# EAGLE library part AT89C513*- (library atmel)
8-bit Flash Microcontroller with Full Speed USB Device Source: http://www.atmel.com/dyn/resources/prod_documents/doc4136.pdf Data sheet mistake: define Packge type pin description for MLF48 but Order Number for QFN32 !?
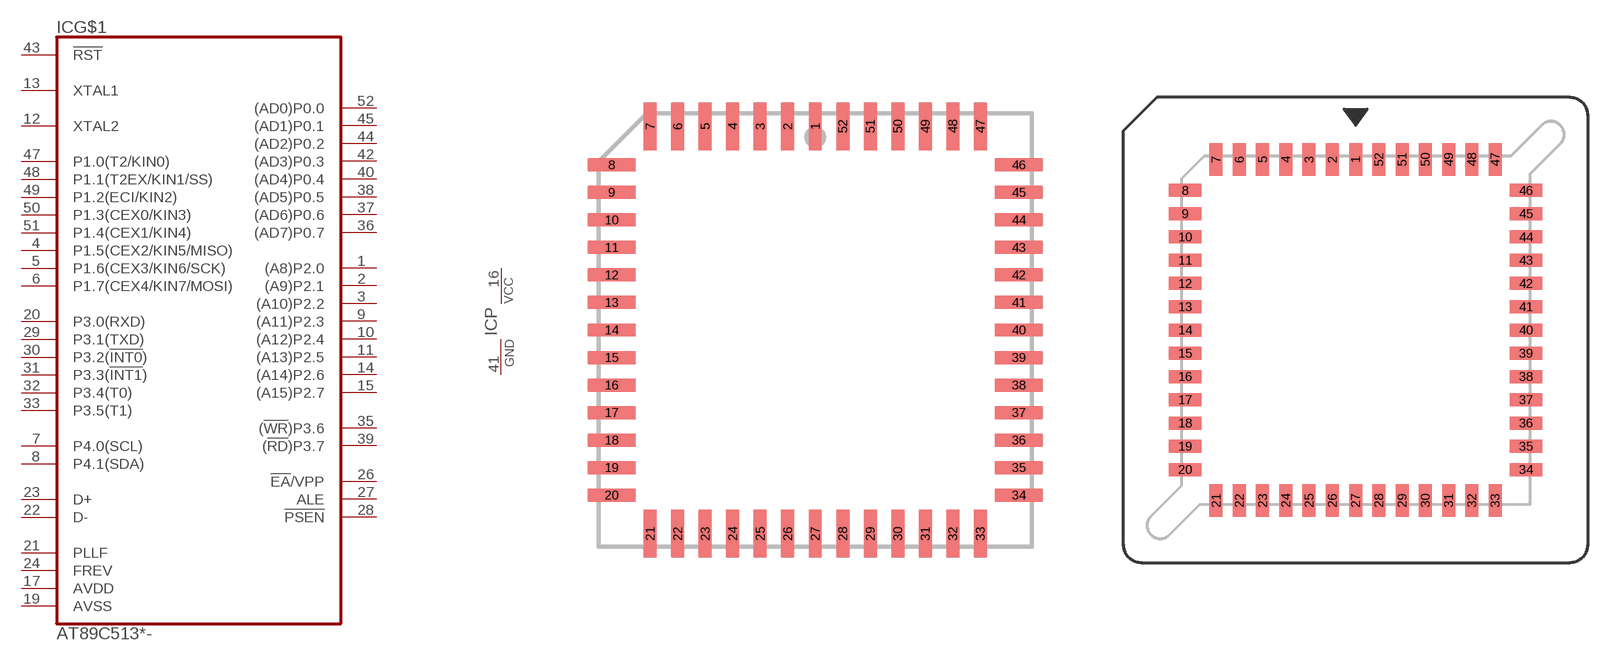
[diagram p12: symbol with the pads of PLCC52; footprints PLCC52, PLCC52_S-SMT_3M]

Designator prefix IC; gates G$1=AT89C5131 P=PWR

## AT89C5130-S, AT89C5131-S  [PLCC52]
1  G$1:(A8)P2.0
2  G$1:(A9)P2.1
3  G$1:(A10)P2.2
4  G$1:P1.5(CEX2/KIN5/MISO)
5  G$1:P1.6(CEX3/KIN6/SCK)
6  G$1:P1.7(CEX4/KIN7/MOSI)
7  G$1:P4.0(SCL)
8  G$1:P4.1(SDA)
9  G$1:(A11)P2.3
10  G$1:(A12)P2.4
11  G$1:(A13)P2.5
12  G$1:XTAL2  in
13  G$1:XTAL1  in
14  G$1:(A14)P2.6
15  G$1:(A15)P2.7
16  P:VCC  pwr
17  G$1:AVDD  pwr
19  G$1:AVSS  pwr
20  G$1:P3.0(RXD)
21  G$1:PLLF
22  G$1:D-
23  G$1:D+
24  G$1:FREV
26  G$1:!EA!/VPP  in
27  G$1:ALE
28  G$1:!PSEN  out
29  G$1:P3.1(TXD)
30  G$1:P3.2(!INT0!)
31  G$1:P3.3(!INT1!)
32  G$1:P3.4(T0)
33  G$1:P3.5(T1)
35  G$1:(!WR!)P3.6
36  G$1:(AD7)P0.7
37  G$1:(AD6)P0.6
38  G$1:(AD5)P0.5
39  G$1:(!RD!)P3.7
40  G$1:(AD4)P0.4
41  P:GND  pwr
42  G$1:(AD3)P0.3
43  G$1:!RST  in
44  G$1:(AD2)P0.2
45  G$1:(AD1)P0.1
47  G$1:P1.0(T2/KIN0)
48  G$1:P1.1(T2EX/KIN1/SS)
49  G$1:P1.2(ECI/KIN2)
50  G$1:P1.3(CEX0/KIN3)
51  G$1:P1.4(CEX1/KIN4)
52  G$1:(AD0)P0.0

## AT89C5130-S(S1), AT89C5131-S(S1)  [PLCC52_S-SMT_3M]
Pads as for PLCC52

## AT89C5130-S(S2), AT89C5131-S(S2)  [PLCC52_S-THT_1]
Pads as for PLCC52

## AT89C5130-R, AT89C5131-R  [QFP64_10X10_0.50]
2  G$1:(A11)P2.3
3  G$1:(A12)P2.4
4  G$1:(A13)P2.5
5  G$1:XTAL2  in
6  G$1:XTAL1  in
7  G$1:(A14)P2.6
8  G$1:(A15)P2.7
9  P:VCC  pwr
10  G$1:AVDD  pwr
12  G$1:AVSS  pwr
14  G$1:P3.0(RXD)
19  G$1:PLLF
20  G$1:D-
21  G$1:D+
22  G$1:FREV
24  G$1:!EA!/VPP  in
25  G$1:ALE
26  G$1:!PSEN  out
27  G$1:P3.1(TXD)
28  G$1:P3.2(!INT0!)
29  G$1:P3.3(!INT1!)
30  G$1:P3.4(T0)
31  G$1:P3.5(T1)
35  G$1:(!WR!)P3.6
36  G$1:(AD7)P0.7
37  G$1:(AD6)P0.6
38  G$1:(AD5)P0.5
39  G$1:(!RD!)P3.7
40  G$1:(AD4)P0.4
42  P:GND  pwr
43  G$1:(AD3)P0.3
44  G$1:!RST  in
45  G$1:(AD2)P0.2
46  G$1:(AD1)P0.1
50  G$1:P1.0(T2/KIN0)
51  G$1:P1.1(T2EX/KIN1/SS)
52  G$1:P1.2(ECI/KIN2)
53  G$1:P1.3(CEX0/KIN3)
54  G$1:P1.4(CEX1/KIN4)
55  G$1:(AD0)P0.0
56  G$1:(A8)P2.0
57  G$1:(A9)P2.1
58  G$1:(A10)P2.2
59  G$1:P1.5(CEX2/KIN5/MISO)
60  G$1:P1.6(CEX3/KIN6/SCK)
61  G$1:P1.7(CEX4/KIN7/MOSI)
62  G$1:P4.0(SCL)
63  G$1:P4.1(SDA)

## Footprint PLCC52 (pad centres in mm)
square Plastic Leaded Chip Carrier, 20mm x 20mm body, 50mil lead pitch
smd 0.6 x 2.2: 1 0,9.4; 2 -1.27,9.4; 3 -2.54,9.4; 4 -3.81,9.4; 5 -5.08,9.4; 6 -6.35,9.4; 7 -7.62,9.4; 21 -7.62,-9.4; 22 -6.35,-9.4; 23 -5.08,-9.4; 24 -3.81,-9.4; 25 -2.54,-9.4; 26 -1.27,-9.4; 27 0,-9.4; 28 1.27,-9.4; 29 2.54,-9.4; 30 3.81,-9.4; 31 5.08,-9.4; 32 6.35,-9.4; 33 7.62,-9.4; 47 7.62,9.4; 48 6.35,9.4; 49 5.08,9.4; 50 3.81,9.4; 51 2.54,9.4; 52 1.27,9.4
smd 2.2 x 0.6: 8 -9.4,7.62; 9 -9.4,6.35; 10 -9.4,5.08; 11 -9.4,3.81; 12 -9.4,2.54; 13 -9.4,1.27; 14 -9.4,0; 15 -9.4,-1.27; 16 -9.4,-2.54; 17 -9.4,-3.81; 18 -9.4,-5.08; 19 -9.4,-6.35; 20 -9.4,-7.62; 34 9.4,-7.62; 35 9.4,-6.35; 36 9.4,-5.08; 37 9.4,-3.81; 38 9.4,-2.54; 39 9.4,-1.27; 40 9.4,0; 41 9.4,1.27; 42 9.4,2.54; 43 9.4,3.81; 44 9.4,5.08; 45 9.4,6.35; 46 9.4,7.62

## Footprint PLCC52_S-SMT_3M (pad centres in mm)
socket for square 52 leads PLCC, surface-mount type manufacturer: 3M
smd 0.71 x 1.78: 1 0,9.31; 2 -1.27,9.31; 3 -2.54,9.31; 4 -3.81,9.31; 5 -5.08,9.31; 6 -6.35,9.31; 7 -7.62,9.31; 21 -7.62,-9.31; 22 -6.35,-9.31; 23 -5.08,-9.31; 24 -3.81,-9.31; 25 -2.54,-9.31; 26 -1.27,-9.31; 27 0,-9.31; 28 1.27,-9.31; 29 2.54,-9.31; 30 3.81,-9.31; 31 5.08,-9.31; 32 6.35,-9.31; 33 7.62,-9.31; 47 7.62,9.31; 48 6.35,9.31; 49 5.08,9.31; 50 3.81,9.31; 51 2.54,9.31; 52 1.27,9.31
smd 1.78 x 0.71: 8 -9.31,7.62; 9 -9.31,6.35; 10 -9.31,5.08; 11 -9.31,3.81; 12 -9.31,2.54; 13 -9.31,1.27; 14 -9.31,0; 15 -9.31,-1.27; 16 -9.31,-2.54; 17 -9.31,-3.81; 18 -9.31,-5.08; 19 -9.31,-6.35; 20 -9.31,-7.62; 34 9.31,-7.62; 35 9.31,-6.35; 36 9.31,-5.08; 37 9.31,-3.81; 38 9.31,-2.54; 39 9.31,-1.27; 40 9.31,0; 41 9.31,1.27; 42 9.31,2.54; 43 9.31,3.81; 44 9.31,5.08; 45 9.31,6.35; 46 9.31,7.62

## Footprint PLCC52_S-THT_1 (pad centres in mm)
socket for square 52 leads PLCC, through-hole type
drill 0.8 pad 1.4 octagon: 1 0,10.16
drill 0.8 pad 1.4: 2 0,7.62; 3 -2.54,10.16; 4 -2.54,7.62; 5 -5.08,10.16; 6 -5.08,7.62; 7 -7.62,10.16; 8 -10.16,7.62; 9 -7.62,7.62; 10 -10.16,5.08; 11 -7.62,5.08; 12 -10.16,2.54; 13 -7.62,2.54; 14 -10.16,0; 15 -7.62,0; 16 -10.16,-2.54; 17 -7.62,-2.54; 18 -10.16,-5.08; 19 -7.62,-5.08; 20 -10.16,-7.62; 21 -7.62,-10.16; 22 -7.62,-7.62; 23 -5.08,-10.16; 24 -5.08,-7.62; 25 -2.54,-10.16; 26 -2.54,-7.62; 27 0,-10.16; 28 0,-7.62; 29 2.54,-10.16; 30 2.54,-7.62; 31 5.08,-10.16; 32 5.08,-7.62; 33 7.62,-10.16; 34 10.16,-7.62; 35 7.62,-7.62; 36 10.16,-5.08; 37 7.62,-5.08; 38 10.16,-2.54; 39 7.62,-2.54; 40 10.16,0; 41 7.62,0; 42 10.16,2.54; 43 7.62,2.54; 44 10.16,5.08; 45 7.62,5.08; 46 10.16,7.62; 47 7.62,10.16; 48 7.62,7.62; 49 5.08,10.16; 50 5.08,7.62; 51 2.54,10.16; 52 2.54,7.62

## Footprint QFP64_10X10_0.50 (pad centres in mm)
Thin Plasic Quad Flat Package, 10mm x 10mm body, 0.50mm lead pitch JEDEC: ATMEL Code:
smd 1.5 x 0.3: 1 -5.7,3.75; 2 -5.7,3.25; 3 -5.7,2.75; 4 -5.7,2.25; 5 -5.7,1.75; 6 -5.7,1.25; 7 -5.7,0.75; 8 -5.7,0.25; 9 -5.7,-0.25; 10 -5.7,-0.75; 11 -5.7,-1.25; 12 -5.7,-1.75; 13 -5.7,-2.25; 14 -5.7,-2.75; 15 -5.7,-3.25; 16 -5.7,-3.75; 33 5.7,-3.75; 34 5.7,-3.25; 35 5.7,-2.75; 36 5.7,-2.25; 37 5.7,-1.75; 38 5.7,-1.25; 39 5.7,-0.75; 40 5.7,-0.25; 41 5.7,0.25; 42 5.7,0.75; 43 5.7,1.25; 44 5.7,1.75; 45 5.7,2.25; 46 5.7,2.75; 47 5.7,3.25; 48 5.7,3.75
smd 0.3 x 1.5: 17 -3.75,-5.7; 18 -3.25,-5.7; 19 -2.75,-5.7; 20 -2.25,-5.7; 21 -1.75,-5.7; 22 -1.25,-5.7; 23 -0.75,-5.7; 24 -0.25,-5.7; 25 0.25,-5.7; 26 0.75,-5.7; 27 1.25,-5.7; 28 1.75,-5.7; 29 2.25,-5.7; 30 2.75,-5.7; 31 3.25,-5.7; 32 3.75,-5.7; 49 3.75,5.7; 50 3.25,5.7; 51 2.75,5.7; 52 2.25,5.7; 53 1.75,5.7; 54 1.25,5.7; 55 0.75,5.7; 56 0.25,5.7; 57 -0.25,5.7; 58 -0.75,5.7; 59 -1.25,5.7; 60 -1.75,5.7; 61 -2.25,5.7; 62 -2.75,5.7; 63 -3.25,5.7; 64 -3.75,5.7